# EAGLE library part DS1302 (library LARS_409_MC3)
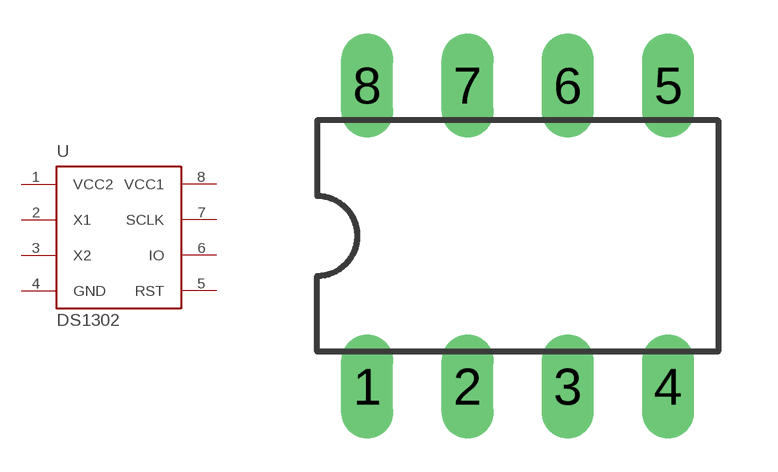
[diagram p6: symbol with the pads of PDIP-8; footprint PDIP-8]

Designator prefix U

## DS1302  [PDIP-8]
1  VCC2  pwr
2  X1
3  X2
4  GND  pwr
5  RST  in
6  IO
7  SCLK  in
8  VCC1  pwr

## Footprint PDIP-8 (pad centres in mm)
8-DIP, 2.54 mm (0.10 in) pitch, 7.62 mm (0.30 in) span, 9.28 X 6.25 X 3.50 mm body 8-pin DIP package with 2.54 mm (0.10 in) pitch, 7.62 mm (0.30 in) span with body size 9.28 X 6.25 X 3.50 mm
drill 0.813 long: 1 -3.81,-3.81; 2 -1.27,-3.81; 3 1.27,-3.81; 4 3.81,-3.81; 5 3.81,3.81; 6 1.27,3.81; 7 -1.27,3.81; 8 -3.81,3.81